# Altium footprint library DIOD-SOT23-3.PcbLib: 1 footprints
Each footprint in its own frame and in the unit in brackets; x right, y up, seen from the top. Pads: shape width x height; smd on the part's side, far side on the other; paste and mask are expansions set on the pad; w line width, h text height; cw(c..) or ccw(c..) is an arc to the next point about the centre after c.
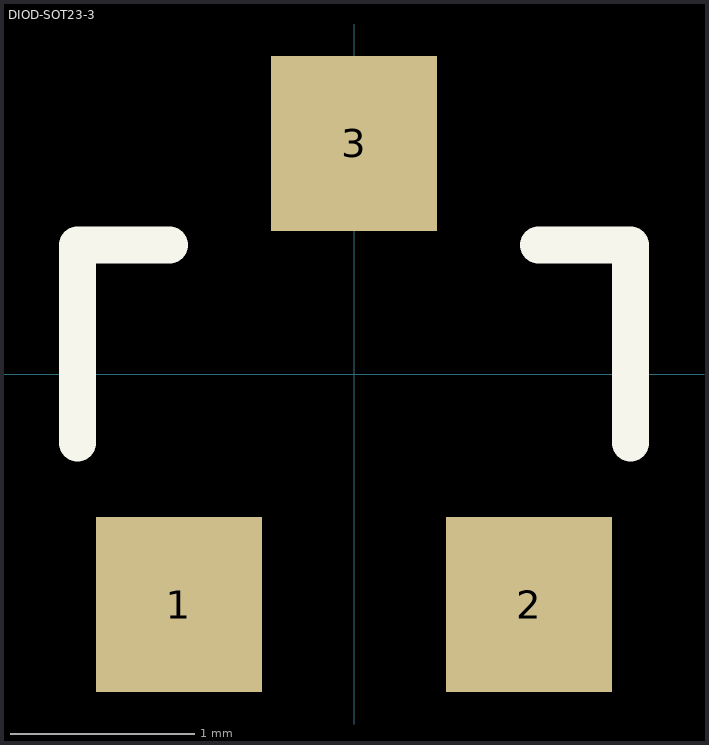
[diagram p0: the footprint, top view; thin cyan lines are the x and y axes]

## DIOD-SOT23-3 [mm] "SOT23, 3-Leads, Body 3.0x1.4mm (max), Pitch 0.95mm"
height 1.1
pads (3):
  rect 0.9x0.95 smd: 1(-0.95,-1.25) 2(0.95,-1.25) 3(0,1.25)
Top Overlay:
  lines w0.2: -1.5,-0.375 -1.5,0.7 -1,0.7 ; 1,0.7 1.5,0.7 1.5,-0.375
3D body: height 1.2, standoff 0, extent -1.45,-1.4 1.45,1.4